# Altium footprint library 3362P_1.PcbLib: 1 footprints
Each footprint in its own frame and in the unit in brackets; x right, y up, seen from the top. Pads: shape width x height; smd on the part's side, far side on the other; paste and mask are expansions set on the pad; w line width, h text height; cw(c..) or ccw(c..) is an arc to the next point about the centre after c.
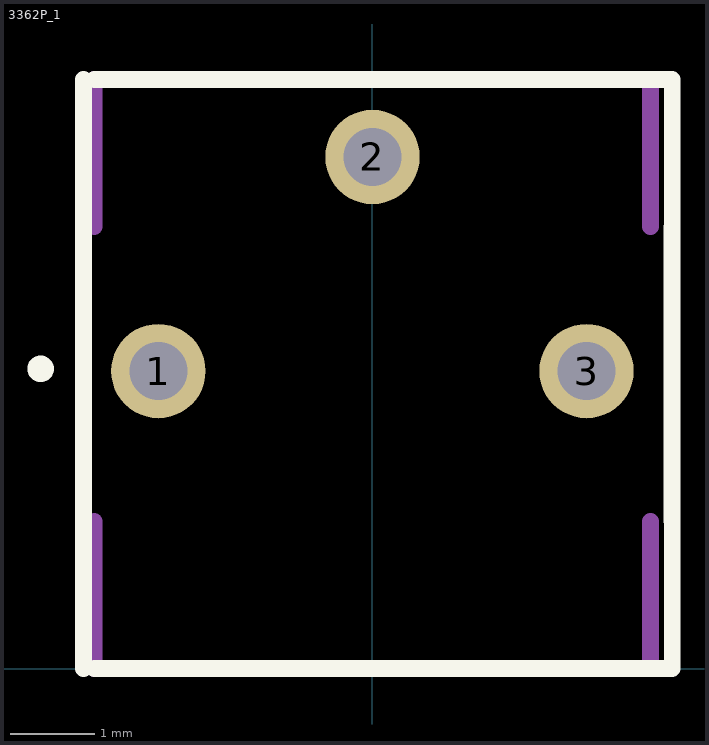
[diagram p0: the footprint, top view; thin cyan lines are the x and y axes]

## 3362P_1 [mm]
pads (3):
  round 1.12 hole 0.69: 1(-2.54,3.53) 2(0,6.07) 3(2.54,3.53)
Top Overlay:
  circle w0.2: c-3.937,3.556 r0.057
  lines w0.2: -3.427,0 -3.427,6.99 ; -3.3,0 3.556,0 3.556,6.99 -3.3,6.99 ; 3.554,1.747 3.554,5.243
Mechanical 15:
  lines w0.2: -3.427,1.747 -3.427,5.243 ; -3.3,1.747 -3.3,0 3.3,0 3.3,1.747 ; -3.3,5.243 -3.3,6.99 3.3,6.99 3.3,5.243